# EAGLE library part SSH-G4-MODULE (library mullac)
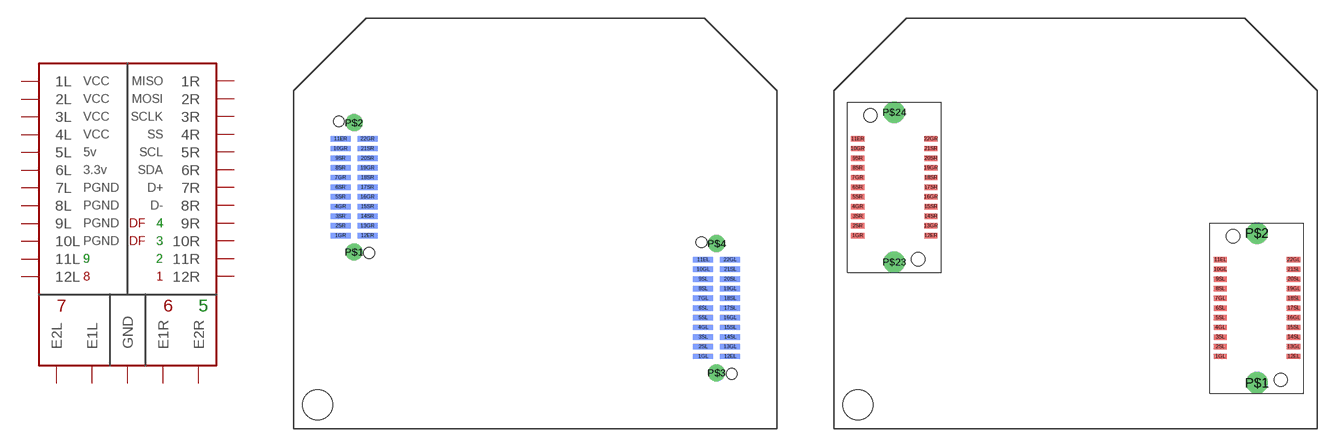
[diagram p11: symbol with the pads of SSH_G4_MODULE; footprints SSH_G4_MODULE, SSH-G4-DOCK]

Designator prefix -

## SSH-G4-MODULEMODULE  [SSH_G4_MODULE]
1GL  GND
1GR  GND
2SL  1L
2SR  1R
3SL  2L
3SR  2R
4GL  GND
4GR  GND
5SL  3L
5SR  3R
6SL  4L
6SR  4R
7GL  GND
7GR  GND
8SL  5L
8SR  5R
9SL  6L
9SR  6R
10GL  GND
10GR  GND
11EL  E1L
11ER  E1R
12EL  E2L
12ER  E2R
13GL  GND
13GR  GND
14SL  7L
14SR  7R
15SL  8L
15SR  8R
16GL  GND
16GR  GND
17SL  9L
17SR  9R
18SL  10L
18SR  10R
19GL  GND
19GR  GND
20SL  11L
20SR  11R
21SL  12L
21SR  12R
22GL  GND
22GR  GND

## SSH-G4-MODULEDOCK  [SSH-G4-DOCK]
Pads as for SSH_G4_MODULE

## SSH-G4-MODULESENSOR_DOCK  [SSH-SENSOR-G4-DOCK]
Pads as for SSH_G4_MODULE

## SSH-G4-MODULESENSOR_MODULE  [SSH_G4_SENSOR_MODULE]
Pads as for SSH_G4_MODULE

## Footprint SSH_G4_MODULE (pad centres in mm)
smd 1.65 x 0.45 bottom: 1GL 13.885,-9; 1GR -16.115,1; 2SL 13.885,-8.2; 2SR -16.115,1.8; 3SL 13.885,-7.4; 3SR -16.115,2.6; 4GL 13.885,-6.6; 4GR -16.115,3.4; 5SL 13.885,-5.8; 5SR -16.115,4.2; 6SL 13.885,-5; 6SR -16.115,5; 7GL 13.885,-4.2; 7GR -16.115,5.8; 8SL 13.885,-3.4; 8SR -16.115,6.6; 9SL 13.885,-2.6; 9SR -16.115,7.4; 10GL 13.885,-1.8; 10GR -16.115,8.2; 11EL 13.885,-1; 11ER -16.115,9; 12EL 16.115,-9; 12ER -13.885,1; 13GL 16.115,-8.2; 13GR -13.885,1.8; 14SL 16.115,-7.4; 14SR -13.885,2.6; 15SL 16.115,-6.6; 15SR -13.885,3.4; 16GL 16.115,-5.8; 16GR -13.885,4.2; 17SL 16.115,-5; 17SR -13.885,5; 18SL 16.115,-4.2; 18SR -13.885,5.8; 19GL 16.115,-3.4; 19GR -13.885,6.6; 20SL 16.115,-2.6; 20SR -13.885,7.4; 21SL 16.115,-1.8; 21SR -13.885,8.2; 22GL 16.115,-1; 22GR -13.885,9
drill 0.9 pad 1.15: P$1 -15,-0.35; P$2 -15,10.35; P$3 15,-10.35; P$4 15,0.35
hole 0.9 at -16.25,10.45
hole 0.9 at -13.75,-0.45
hole 0.9 at 13.75,0.45
hole 0.9 at 16.25,-10.45
hole 2.5 at -18,-13

## Footprint SSH-G4-DOCK (pad centres in mm)
smd 1.1 x 0.45: 1GL 11.97,-9; 1GR -18.03,1; 2SL 11.97,-8.2; 2SR -18.03,1.8; 3SL 11.97,-7.4; 3SR -18.03,2.6; 4GL 11.97,-6.6; 4GR -18.03,3.4; 5SL 11.97,-5.8; 5SR -18.03,4.2; 6SL 11.97,-5; 6SR -18.03,5; 7GL 11.97,-4.2; 7GR -18.03,5.8; 8SL 11.97,-3.4; 8SR -18.03,6.6; 9SL 11.97,-2.6; 9SR -18.03,7.4; 10GL 11.97,-1.8; 10GR -18.03,8.2; 11EL 11.97,-1; 11ER -18.03,9; 12EL 18.03,-9; 12ER -11.97,1; 13GL 18.03,-8.2; 13GR -11.97,1.8; 14SL 18.03,-7.4; 14SR -11.97,2.6; 15SL 18.03,-6.6; 15SR -11.97,3.4; 16GL 18.03,-5.8; 16GR -11.97,4.2; 17SL 18.03,-5; 17SR -11.97,5; 18SL 18.03,-4.2; 18SR -11.97,5.8; 19GL 18.03,-3.4; 19GR -11.97,6.6; 20SL 18.03,-2.6; 20SR -11.97,7.4; 21SL 18.03,-1.8; 21SR -11.97,8.2; 22GL 18.03,-1; 22GR -11.97,9
drill 1.2 pad 1.35: P$1 15,-11.2; P$2 15,1.2; P$23 -15,-1.2; P$24 -15,11.2
hole 1.1 at -13.02,-0.95
hole 1.1 at -16.98,10.95
hole 1.1 at 16.98,-10.95
hole 1.1 at 13.02,0.95
hole 2.5 at -18,-13

## Footprint SSH-SENSOR-G4-DOCK (pad centres in mm)
smd 1.1 x 0.45: 1GL 11.97,-9; 1GR -18.03,1; 2SL 11.97,-8.2; 2SR -18.03,1.8; 3SL 11.97,-7.4; 3SR -18.03,2.6; 4GL 11.97,-6.6; 4GR -18.03,3.4; 5SL 11.97,-5.8; 5SR -18.03,4.2; 6SL 11.97,-5; 6SR -18.03,5; 7GL 11.97,-4.2; 7GR -18.03,5.8; 8SL 11.97,-3.4; 8SR -18.03,6.6; 9SL 11.97,-2.6; 9SR -18.03,7.4; 10GL 11.97,-1.8; 10GR -18.03,8.2; 11EL 11.97,-1; 11ER -18.03,9; 12EL 18.03,-9; 12ER -11.97,1; 13GL 18.03,-8.2; 13GR -11.97,1.8; 14SL 18.03,-7.4; 14SR -11.97,2.6; 15SL 18.03,-6.6; 15SR -11.97,3.4; 16GL 18.03,-5.8; 16GR -11.97,4.2; 17SL 18.03,-5; 17SR -11.97,5; 18SL 18.03,-4.2; 18SR -11.97,5.8; 19GL 18.03,-3.4; 19GR -11.97,6.6; 20SL 18.03,-2.6; 20SR -11.97,7.4; 21SL 18.03,-1.8; 21SR -11.97,8.2; 22GL 18.03,-1; 22GR -11.97,9
drill 1.2 pad 1.35: P$1 15,-11.2; P$2 15,1.2; P$23 -15,-1.2; P$24 -15,11.2
hole 1.1 at -13.02,-0.95
hole 1.1 at -16.98,10.95
hole 1.1 at 16.98,-10.95
hole 1.1 at 13.02,0.95

## Footprint SSH_G4_SENSOR_MODULE (pad centres in mm)
smd 1.65 x 0.45 bottom: 1GL 13.885,-9; 1GR -16.115,1; 2SL 13.885,-8.2; 2SR -16.115,1.8; 3SL 13.885,-7.4; 3SR -16.115,2.6; 4GL 13.885,-6.6; 4GR -16.115,3.4; 5SL 13.885,-5.8; 5SR -16.115,4.2; 6SL 13.885,-5; 6SR -16.115,5; 7GL 13.885,-4.2; 7GR -16.115,5.8; 8SL 13.885,-3.4; 8SR -16.115,6.6; 9SL 13.885,-2.6; 9SR -16.115,7.4; 10GL 13.885,-1.8; 10GR -16.115,8.2; 11EL 13.885,-1; 11ER -16.115,9; 12EL 16.115,-9; 12ER -13.885,1; 13GL 16.115,-8.2; 13GR -13.885,1.8; 14SL 16.115,-7.4; 14SR -13.885,2.6; 15SL 16.115,-6.6; 15SR -13.885,3.4; 16GL 16.115,-5.8; 16GR -13.885,4.2; 17SL 16.115,-5; 17SR -13.885,5; 18SL 16.115,-4.2; 18SR -13.885,5.8; 19GL 16.115,-3.4; 19GR -13.885,6.6; 20SL 16.115,-2.6; 20SR -13.885,7.4; 21SL 16.115,-1.8; 21SR -13.885,8.2; 22GL 16.115,-1; 22GR -13.885,9
drill 0.9 pad 1.15: P$1 -15,-0.35; P$2 -15,10.35; P$3 15,-10.35; P$4 15,0.35
hole 0.9 at -16.25,10.45
hole 0.9 at -13.75,-0.45
hole 0.9 at 13.75,0.45
hole 0.9 at 16.25,-10.45